# Altium schematic symbol library F3081B7F121006E200.SchLib: 1 symbol
Pins are listed as number, name and electrical type; pins without a type are passive.

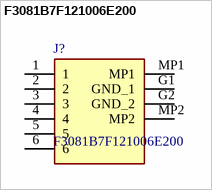
[diagram p0: symbol F3081B7F121006E200]

## F3081B7F121006E200
designator J?
FFC & FPC Connectors F308-1B7F1-21006-E20 #VALUE!; Manufacturer_Name: Amphenol; Geometry.Height: 2.8mm; Mouser Part Number: 649-F3081B7F006E200; Mouser Price/Stock: https://www.mouser.co.uk/ProductDetail/Amphenol-FCI/F3081B7F121006E200?qs=OlC7AqGiEDlbHOY63ODzcg%3D%3D; Manufacturer_Part_Number: F3081B7F121006E200; Datasheet Link: *
footprint F3081B7F121006E200
pins: 1, 2, 3, 4, 5, 6, G1 GND_1, G2 GND_2, MP1, MP2